# Altium footprint library SW_TL1015AF160QG.PcbLib: 1 footprints
Each footprint in its own frame and in the unit in brackets; x right, y up, seen from the top. Pads: shape width x height; smd on the part's side, far side on the other; paste and mask are expansions set on the pad; w line width, h text height; cw(c..) or ccw(c..) is an arc to the next point about the centre after c.
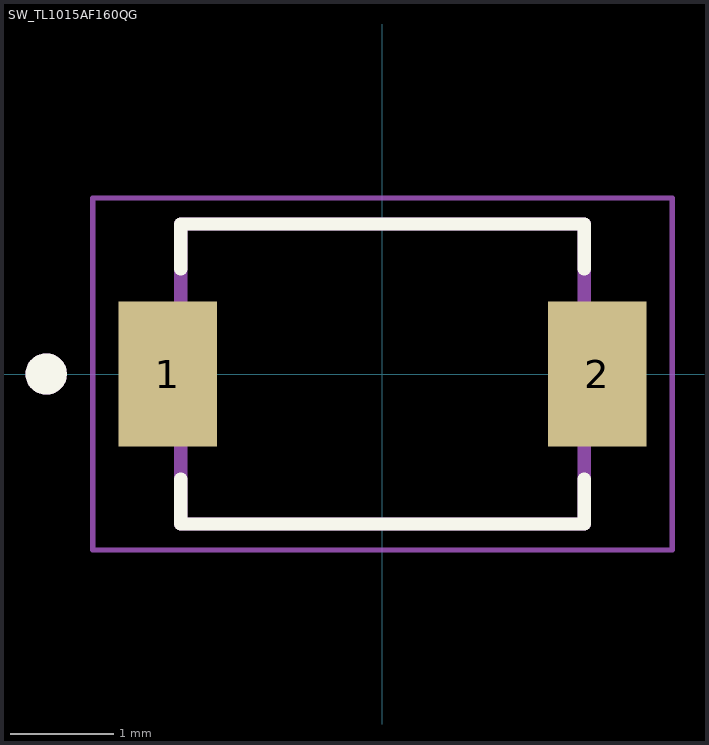
[diagram p0: the footprint, top view; thin cyan lines are the x and y axes]

## SW_TL1015AF160QG [mm]
pads (2):
  rect 0.95x1.4 smd: 1(-2.075,0) 2(2.075,0)
Top Overlay:
  circle w0.2: c-3.25,0 r0.1
  lines w0.127: -1.95,-1.014 -1.95,-1.45 1.95,-1.45 1.95,-1.014 ; -1.95,1.014 -1.95,1.45 1.95,1.45 1.95,1.014
Mechanical 13:
  circle w0.2: c-3.25,0 r0.1
  lines w0.127: -1.95,-1.45 -1.95,1.45 1.95,1.45 1.95,-1.45 -1.95,-1.45
Mechanical 15:
  lines w0.05: -2.8,-1.7 -2.8,1.7 2.8,1.7 2.8,-1.7 -2.8,-1.7
3D body "TL1015AF160QG--3DModel-STEP-520916.STEP": height 2.02, standoff 0.02, extent -2.25,-1.397 2.25,1.503